# Altium schematic symbol library Microchip.SchLib: 1 symbol
Pins are listed as number, name and electrical type; pins without a type are passive.

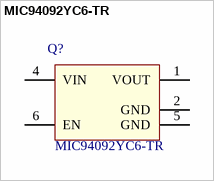
[diagram p0: symbol MIC94092YC6-TR]

## MIC94092YC6-TR
designator Q?
Power Switch Mosfet-P SC70-6; Manufacturer: Microchip; PartNUmber: MIC94092YC6-TR
footprint TSSOP6
pins: 1 VOUT, 2 GND, 4 VIN, 5 GND, 6 EN